# Altium schematic symbol library NVMTS0D4N04CL.SchLib: 1 symbol
Pins are listed as number, name and electrical type; pins without a type are passive.

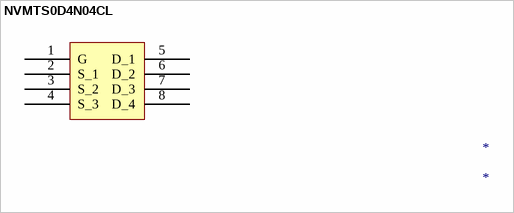
[diagram p0: symbol NVMTS0D4N04CL]

## NVMTS0D4N04CL
designator *
pins: 1 G, 2 S_1, 3 S_2, 4 S_3, 5 D_1, 6 D_2, 7 D_3, 8 D_4